# Altium schematic symbol library LMR51625XDDCR.SchLib: 1 symbol
Pins are listed as number, name and electrical type; pins without a type are passive.

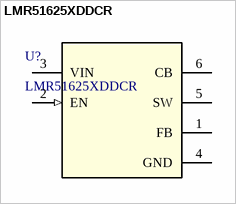
[diagram p0: symbol LMR51625XDDCR]

## LMR51625XDDCR
designator U?
SIMPLE SWITCHERÂ® synchronous buck converter with 4.3V-to-60V, 2.5A and low quiescent current 6-SOT-23-THIN -40 to 150; Manufacturer_Name: Texas Instruments; TYPE: TYPE; RefDes: RefDes; Copyright: Copyright (C) 2025 Ultra Librarian. All rights reserved.; Manufacturer_Part_Number: LMR51625XDDCR
footprint DDC0006A-MFG
pins: 1 FB, 2 EN (in), 3 VIN (power), 4 GND (power), 5 SW, 6 CB